# Altium schematic symbol library jlcpcb_diodes_basic.schlib: 3 symbols
Pins are listed as number, name and electrical type; pins without a type are passive.

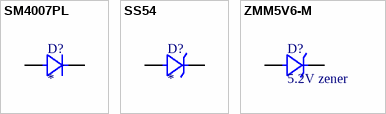
[diagram p0: symbols SM4007PL to ZMM5V6-M]

## SM4007PL
designator D?
1A 1kV 1.1V@1A SOD-123FL Diodes - General Purpose ROHS; Manufacturer Part Number: SM4007PL; JLCPCB Part Number: C64898
footprint SOD123
pins: 1 C, 2 A

## SS54
designator D?
40V 550mV@5A 5A SMA(DO-214AC) Schottky Barrier Diodes (SBD) ROHS; Manufacturer Part Number: SS54; JLCPCB Part Number: C22452
footprint DO214
pins: 1 C, 2 A

## ZMM5V6-M
designator D?, comment 5.2V zener
Single 5.2V~6V 500mW 5.6V LL-34 Zener Diodes ROHS; Manufacturer Part Number: ZMM5V6-M; JLCPCB Part Number: C8062
footprint SOD80
pins: 1 C, 2 A